# Altium integrated library Microchip.IntLib: 2 symbols
Pins are listed as number, name and electrical type; pins without a type are passive.

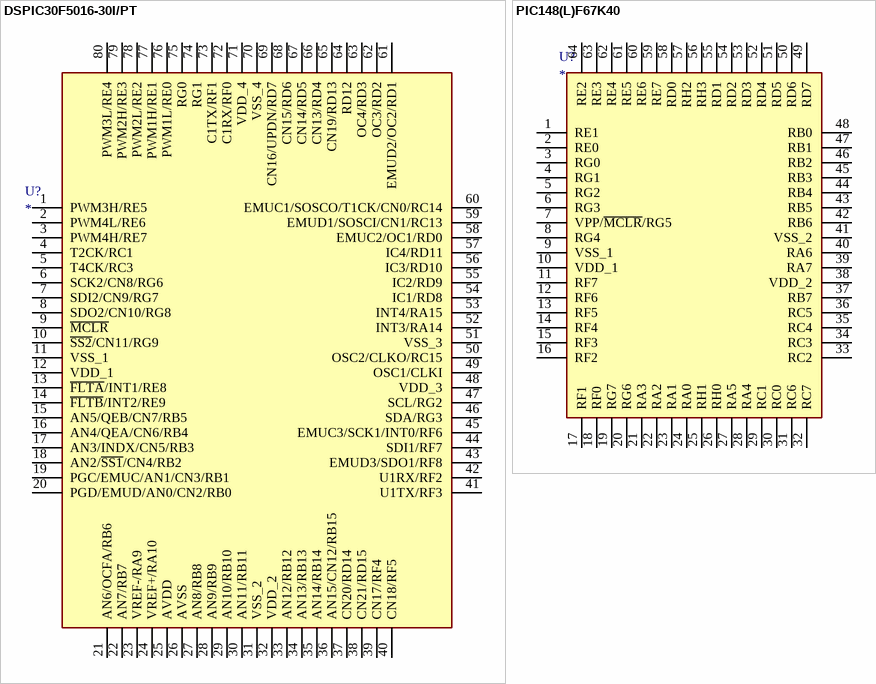
[diagram p0: symbols DSPIC30F5016-30I/PT to PIC148(L)F67K40]

## DSPIC30F5016-30I/PT
designator U?
ComponentLink1Description: mouser; ComponentLink1URL: https://eu.mouser.com/ProductDetail/Microchip-Technology/dsPIC30F5016-30I-PT?qs=nMCt4TBfEwrHWWZGp3UQXg%3D%3D&gclid=CjwKCAjw8sCRBhA6EiwA6_IF4dFPRjyUrNBUlW22W851GjbT_IEK-d7P-zuFMYxUD6VV1HpDzLdENBoCz8cQAvD_BwE; datasheet: https://eu.mouser.com/datasheet/2/268/DS-70149E-1307714.pdf
footprint TQFP - 80 pines (dim:12x12x1.2; pitch: 0.50)
pins: 1 PWM3H/RE5, 2 PWM4L/RE6, 3 PWM4H/RE7, 4 T2CK/RC1, 5 T4CK/RC3, 6 SCK2/CN8/RG6, 7 SDI2/CN9/RG7, 8 SDO2/CN10/RG8, 9 ~{MCLR}, 10 ~{SS2}/CN11/RG9, 11 VSS_1, 12 VDD_1, 13 ~{FLTA}/INT1/RE8, 14 ~{FLTB}/INT2/RE9, 15 AN5/QEB/CN7/RB5, 16 AN4/QEA/CN6/RB4, 17 AN3/INDX/CN5/RB3, 18 AN2/~{SS1}/CN4/RB2, 19 PGC/EMUC/AN1/CN3/RB1, 20 PGD/EMUD/AN0/CN2/RB0, 21 AN6/OCFA/RB6, 22 AN7/RB7, 23 VREF-/RA9, 24 VREF+/RA10, 25 AVDD, 26 AVSS, 27 AN8/RB8, 28 AN9/RB9, 29 AN10/RB10, 30 AN11/RB11, 31 VSS_2, 32 VDD_2, 33 AN12/RB12, 34 AN13/RB13, 35 AN14/RB14, 36 AN15/CN12/RB15, 37 CN20/RD14, 38 CN21/RD15, 39 CN17/RF4, 40 CN18/RF5, 41 U1TX/RF3, 42 U1RX/RF2, 43 EMUD3/SDO1/RF8, 44 SDI1/RF7, 45 EMUC3/SCK1/INT0/RF6, 46 SDA/RG3, 47 SCL/RG2, 48 VDD_3, 49 OSC1/CLKI, 50 OSC2/CLKO/RC15, 51 VSS_3, 52 INT3/RA14, 53 INT4/RA15, 54 IC1/RD8, 55 IC2/RD9, 56 IC3/RD10, 57 IC4/RD11, 58 EMUC2/OC1/RD0, 59 EMUD1/SOSCI/CN1/RC13, 60 EMUC1/SOSCO/T1CK/CN0/RC14, 61 EMUD2/OC2/RD1, 62 OC3/RD2, 63 OC4/RD3, 64 RD12, 65 CN19/RD13, 66 CN13/RD4, 67 CN14/RD5, 68 CN15/RD6, 69 CN16/UPDN/RD7, 70 VSS_4, 71 VDD_4, 72 C1RX/RF0, 73 C1TX/RF1, 74 RG1, 75 RG0, 76 PWM1L/RE0, 77 PWM1H/RE1, 78 PWM2L/RE2, 79 PWM2H/RE3, 80 PWM3L/RE4

## PIC148(L)F67K40
designator U?
ComponentLink1Description: datasheet; ComponentLink1URL: http://ww1.microchip.com/downloads/en/DeviceDoc/PIC18(L)F67K40%20Data%20Sheet%2040001841D.pdf
footprint TQFP - 64 pines (dim:10x10x1; pitch: 0.50)
pins: 1 RE1, 2 RE0, 3 RG0, 4 RG1, 5 RG2, 6 RG3, 7 VPP/~{MCLR}/RG5, 8 RG4, 9 VSS_1, 10 VDD_1, 11 RF7, 12 RF6, 13 RF5, 14 RF4, 15 RF3, 16 RF2, 17 RF1, 18 RF0, 19 RG7, 20 RG6, 21 RA3, 22 RA2, 23 RA1, 24 RA0, 25 RH1, 26 RH0, 27 RA5, 28 RA4, 29 RC1, 30 RC0, 31 RC6, 32 RC7, 33 RC2, 34 RC3, 35 RC4, 36 RC5, 37 RB7, 38 VDD_2, 39 RA7, 40 RA6, 41 VSS_2, 42 RB6, 43 RB5, 44 RB4, 45 RB3, 46 RB2, 47 RB1, 48 RB0, 49 RD7, 50 RD6, 51 RD5, 52 RD4, 53 RD3, 54 RD2, 55 RD1, 56 RH3, 57 RH2, 58 RD0, 59 RE7, 60 RE6, 61 RE5, 62 RE4, 63 RE3, 64 RE2